# Altium schematic symbol library jlcpcb_2025_04_resistors_extended_1812.schlib: 557 symbols (part 2 of 9)
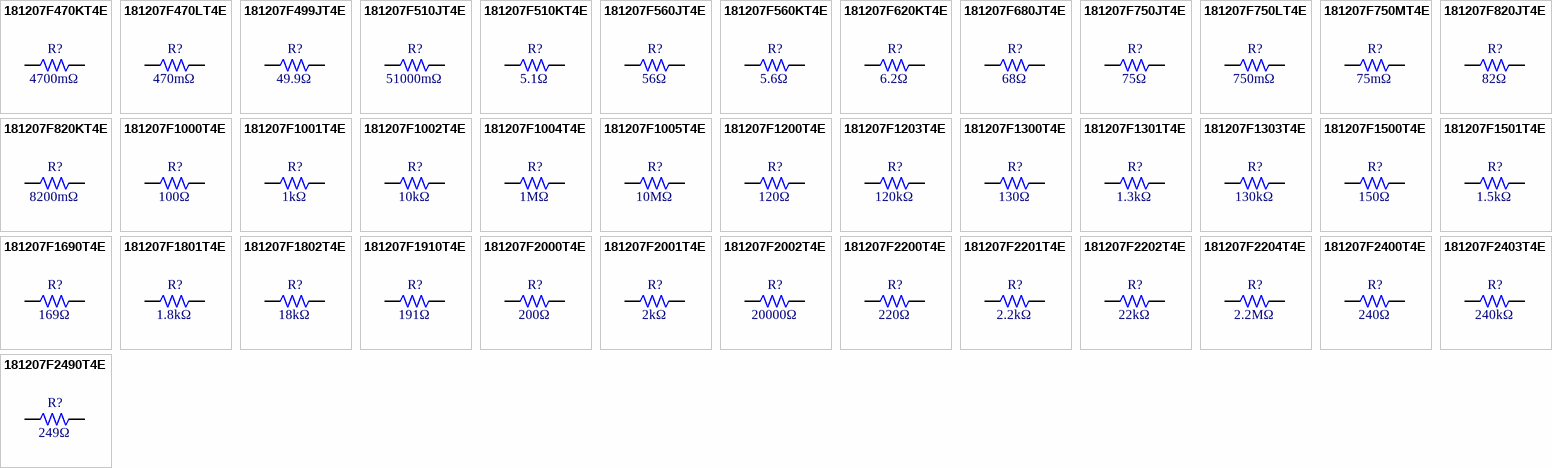
[diagram p14: symbols 181207F470KT4E to 181207F2490T4E]

## 181207F1303T4E
designator R?  Resistance: 130kΩ  (hidden comment: *)
Resistor, 130kΩ, ±1%, 750mW, 200V, ±100ppm/℃, -55℃~+155℃, SMD 1812; Manufacturer: Uniroyal; Manufacturer Part Number: 181207F1303T4E; Supplier 1: LCSC; Supplier Part Number 1: C422150; JLCPCB Part Number: C422150; Power Rating: 750mW; Category: Resistors; Package Size: 1812; JLCPCB Basic Part: Yes; Tolerance: ±1%; Voltage Rating: 200V; Temperature Coefficient: ±100ppm/℃; Temperature Rating: -55℃~+155℃; ComponentLink1Description: Datasheet; ComponentLink1URL: https://wmsc.lcsc.com/wmsc/upload/file/pdf/v2/lcsc/2205312245_UNI-ROYAL-Uniroyal-Elec-181207F1303T4E_C422150.pdf; ComponentLink2Description: JLCPCB Part URL; ComponentLink2URL: https://jlcpcb.com/partdetail/C422150
pins: 1, 2
1 alternate drawing of the same symbol

## 181207F1500T4E
designator R?  Resistance: 150Ω  (hidden comment: *)
Resistor, 150Ω, ±1%, 750mW, 200V, ±100ppm/℃, -55℃~+155℃, SMD 1812; Manufacturer: Uniroyal; Manufacturer Part Number: 181207F1500T4E; Supplier 1: LCSC; Supplier Part Number 1: C422147; JLCPCB Part Number: C422147; Power Rating: 750mW; Category: Resistors; Package Size: 1812; JLCPCB Basic Part: Yes; Tolerance: ±1%; Voltage Rating: 200V; Temperature Coefficient: ±100ppm/℃; Temperature Rating: -55℃~+155℃; ComponentLink1Description: Datasheet; ComponentLink1URL: https://wmsc.lcsc.com/wmsc/upload/file/pdf/v2/lcsc/2205312245_UNI-ROYAL-Uniroyal-Elec-181207F1500T4E_C422147.pdf; ComponentLink2Description: JLCPCB Part URL; ComponentLink2URL: https://jlcpcb.com/partdetail/C422147
pins: 1, 2
1 alternate drawing of the same symbol

## 181207F1501T4E
designator R?  Resistance: 1.5kΩ  (hidden comment: *)
Resistor, 1.5kΩ, ±1%, 750mW, 200V, ±100ppm/℃, -55℃~+155℃, SMD 1812; Manufacturer: Uniroyal; Manufacturer Part Number: 181207F1501T4E; Supplier 1: LCSC; Supplier Part Number 1: C422146; JLCPCB Part Number: C422146; Power Rating: 750mW; Category: Resistors; Package Size: 1812; JLCPCB Basic Part: Yes; Tolerance: ±1%; Voltage Rating: 200V; Temperature Coefficient: ±100ppm/℃; Temperature Rating: -55℃~+155℃; ComponentLink1Description: Datasheet; ComponentLink1URL: https://wmsc.lcsc.com/wmsc/upload/file/pdf/v2/lcsc/2205312245_UNI-ROYAL-Uniroyal-Elec-181207F1501T4E_C422146.pdf; ComponentLink2Description: JLCPCB Part URL; ComponentLink2URL: https://jlcpcb.com/partdetail/C422146
pins: 1, 2
1 alternate drawing of the same symbol

## 181207F1690T4E
designator R?  Resistance: 169Ω  (hidden comment: *)
Resistor, 169Ω, ±1%, 750mW, 200V, ±100ppm/℃, -55℃~+155℃, SMD 1812; Manufacturer: Uniroyal; Manufacturer Part Number: 181207F1690T4E; Supplier 1: LCSC; Supplier Part Number 1: C422142; JLCPCB Part Number: C422142; Power Rating: 750mW; Category: Resistors; Package Size: 1812; JLCPCB Basic Part: Yes; Tolerance: ±1%; Voltage Rating: 200V; Temperature Coefficient: ±100ppm/℃; Temperature Rating: -55℃~+155℃; ComponentLink1Description: Datasheet; ComponentLink1URL: https://wmsc.lcsc.com/wmsc/upload/file/pdf/v2/lcsc/2205312245_UNI-ROYAL-Uniroyal-Elec-181207F1690T4E_C422142.pdf; ComponentLink2Description: JLCPCB Part URL; ComponentLink2URL: https://jlcpcb.com/partdetail/C422142
pins: 1, 2
1 alternate drawing of the same symbol

## 181207F1801T4E
designator R?  Resistance: 1.8kΩ  (hidden comment: *)
Resistor, 1.8kΩ, ±1%, 750mW, 200V, ±100ppm/℃, -55℃~+155℃, SMD 1812; Manufacturer: Uniroyal; Manufacturer Part Number: 181207F1801T4E; Supplier 1: LCSC; Supplier Part Number 1: C422141; JLCPCB Part Number: C422141; Power Rating: 750mW; Category: Resistors; Package Size: 1812; JLCPCB Basic Part: Yes; Tolerance: ±1%; Voltage Rating: 200V; Temperature Coefficient: ±100ppm/℃; Temperature Rating: -55℃~+155℃; ComponentLink1Description: Datasheet; ComponentLink1URL: https://wmsc.lcsc.com/wmsc/upload/file/pdf/v2/lcsc/2205312245_UNI-ROYAL-Uniroyal-Elec-181207F1801T4E_C422141.pdf; ComponentLink2Description: JLCPCB Part URL; ComponentLink2URL: https://jlcpcb.com/partdetail/C422141
pins: 1, 2
1 alternate drawing of the same symbol

## 181207F1802T4E
designator R?  Resistance: 18kΩ  (hidden comment: *)
Resistor, 18kΩ, ±1%, 750mW, 200V, ±100ppm/℃, -55℃~+155℃, SMD 1812; Manufacturer: Uniroyal; Manufacturer Part Number: 181207F1802T4E; Supplier 1: LCSC; Supplier Part Number 1: C422140; JLCPCB Part Number: C422140; Power Rating: 750mW; Category: Resistors; Package Size: 1812; JLCPCB Basic Part: Yes; Tolerance: ±1%; Voltage Rating: 200V; Temperature Coefficient: ±100ppm/℃; Temperature Rating: -55℃~+155℃; ComponentLink1Description: Datasheet; ComponentLink1URL: https://wmsc.lcsc.com/wmsc/upload/file/pdf/v2/lcsc/2205312245_UNI-ROYAL-Uniroyal-Elec-181207F1802T4E_C422140.pdf; ComponentLink2Description: JLCPCB Part URL; ComponentLink2URL: https://jlcpcb.com/partdetail/C422140
pins: 1, 2
1 alternate drawing of the same symbol

## 181207F1910T4E
designator R?  Resistance: 191Ω  (hidden comment: *)
Resistor, 191Ω, ±1%, 750mW, 200V, ±100ppm/℃, -55℃~+155℃, SMD 1812; Manufacturer: Uniroyal; Manufacturer Part Number: 181207F1910T4E; Supplier 1: LCSC; Supplier Part Number 1: C422136; JLCPCB Part Number: C422136; Power Rating: 750mW; Category: Resistors; Package Size: 1812; JLCPCB Basic Part: Yes; Tolerance: ±1%; Voltage Rating: 200V; Temperature Coefficient: ±100ppm/℃; Temperature Rating: -55℃~+155℃; ComponentLink1Description: Datasheet; ComponentLink1URL: https://wmsc.lcsc.com/wmsc/upload/file/pdf/v2/lcsc/2205312245_UNI-ROYAL-Uniroyal-Elec-181207F1910T4E_C422136.pdf; ComponentLink2Description: JLCPCB Part URL; ComponentLink2URL: https://jlcpcb.com/partdetail/C422136
pins: 1, 2
1 alternate drawing of the same symbol

## 181207F2000T4E
designator R?  Resistance: 200Ω  (hidden comment: *)
Resistor, 200Ω, ±1%, 750mW, 200V, ±100ppm/℃, -55℃~+155℃, SMD 1812; Manufacturer: Uniroyal; Manufacturer Part Number: 181207F2000T4E; Supplier 1: LCSC; Supplier Part Number 1: C422135; JLCPCB Part Number: C422135; Power Rating: 750mW; Category: Resistors; Package Size: 1812; JLCPCB Basic Part: Yes; Tolerance: ±1%; Voltage Rating: 200V; Temperature Coefficient: ±100ppm/℃; Temperature Rating: -55℃~+155℃; ComponentLink1Description: Datasheet; ComponentLink1URL: https://wmsc.lcsc.com/wmsc/upload/file/pdf/v2/lcsc/2304140030_UNI-ROYAL-Uniroyal-Elec-181207F2000T4E_C422135.pdf; ComponentLink2Description: JLCPCB Part URL; ComponentLink2URL: https://jlcpcb.com/partdetail/C422135
pins: 1, 2
1 alternate drawing of the same symbol

## 181207F2001T4E
designator R?  Resistance: 2kΩ  (hidden comment: *)
Resistor, 2kΩ, ±1%, 750mW, 200V, ±100ppm/℃, -55℃~+155℃, SMD 1812; Manufacturer: Uniroyal; Manufacturer Part Number: 181207F2001T4E; Supplier 1: LCSC; Supplier Part Number 1: C2908109; JLCPCB Part Number: C2908109; Power Rating: 750mW; Category: Resistors; Package Size: 1812; JLCPCB Basic Part: Yes; Tolerance: ±1%; Voltage Rating: 200V; Temperature Coefficient: ±100ppm/℃; Temperature Rating: -55℃~+155℃; ComponentLink1Description: Datasheet; ComponentLink1URL: https://wmsc.lcsc.com/wmsc/upload/file/pdf/v2/lcsc/2206011045_UNI-ROYAL-Uniroyal-Elec-181207F2001T4E_C2908109.pdf; ComponentLink2Description: JLCPCB Part URL; ComponentLink2URL: https://jlcpcb.com/partdetail/C2908109
pins: 1, 2
1 alternate drawing of the same symbol

## 181207F2002T4E
designator R?  Resistance: 20000Ω  (hidden comment: *)
Resistor, 20000Ω, ±1%, 750mW, 200V, ±100ppm/℃, -55℃~+155℃, SMD 1812; Manufacturer: Uniroyal; Manufacturer Part Number: 181207F2002T4E; Supplier 1: LCSC; Supplier Part Number 1: C921029; JLCPCB Part Number: C921029; Power Rating: 750mW; Category: Resistors; Package Size: 1812; JLCPCB Basic Part: Yes; Tolerance: ±1%; Voltage Rating: 200V; Temperature Coefficient: ±100ppm/℃; Temperature Rating: -55℃~+155℃; ComponentLink1Description: Datasheet; ComponentLink1URL: https://wmsc.lcsc.com/wmsc/upload/file/pdf/v2/lcsc/2206011045_UNI-ROYAL-Uniroyal-Elec-181207F2002T4E_C921029.pdf; ComponentLink2Description: JLCPCB Part URL; ComponentLink2URL: https://jlcpcb.com/partdetail/C921029
pins: 1, 2
1 alternate drawing of the same symbol

## 181207F2200T4E
designator R?  Resistance: 220Ω  (hidden comment: *)
Resistor, 220Ω, ±1%, 750mW, 200V, ±100ppm/℃, -55℃~+155℃, SMD 1812; Manufacturer: Uniroyal; Manufacturer Part Number: 181207F2200T4E; Supplier 1: LCSC; Supplier Part Number 1: C422132; JLCPCB Part Number: C422132; Power Rating: 750mW; Category: Resistors; Package Size: 1812; JLCPCB Basic Part: Yes; Tolerance: ±1%; Voltage Rating: 200V; Temperature Coefficient: ±100ppm/℃; Temperature Rating: -55℃~+155℃; ComponentLink1Description: Datasheet; ComponentLink1URL: https://wmsc.lcsc.com/wmsc/upload/file/pdf/v2/lcsc/2205312245_UNI-ROYAL-Uniroyal-Elec-181207F2200T4E_C422132.pdf; ComponentLink2Description: JLCPCB Part URL; ComponentLink2URL: https://jlcpcb.com/partdetail/C422132
pins: 1, 2
1 alternate drawing of the same symbol

## 181207F2201T4E
designator R?  Resistance: 2.2kΩ  (hidden comment: *)
Resistor, 2.2kΩ, ±1%, 750mW, 200V, -55℃~+155℃, SMD 1812; Manufacturer: Uniroyal; Manufacturer Part Number: 181207F2201T4E; Supplier 1: LCSC; Supplier Part Number 1: C407130; JLCPCB Part Number: C407130; Power Rating: 750mW; Category: Resistors; Package Size: 1812; JLCPCB Basic Part: Yes; Tolerance: ±1%; Voltage Rating: 200V; Temperature Rating: -55℃~+155℃; ComponentLink1Description: Datasheet; ComponentLink2Description: JLCPCB Part URL; ComponentLink2URL: https://jlcpcb.com/partdetail/C407130
pins: 1, 2
1 alternate drawing of the same symbol

## 181207F2202T4E
designator R?  Resistance: 22kΩ  (hidden comment: *)
Resistor, 22kΩ, ±1%, 750mW, 200V, ±100ppm/℃, -55℃~+155℃, SMD 1812; Manufacturer: Uniroyal; Manufacturer Part Number: 181207F2202T4E; Supplier 1: LCSC; Supplier Part Number 1: C422131; JLCPCB Part Number: C422131; Power Rating: 750mW; Category: Resistors; Package Size: 1812; JLCPCB Basic Part: Yes; Tolerance: ±1%; Voltage Rating: 200V; Temperature Coefficient: ±100ppm/℃; Temperature Rating: -55℃~+155℃; ComponentLink1Description: Datasheet; ComponentLink1URL: https://wmsc.lcsc.com/wmsc/upload/file/pdf/v2/lcsc/2205312245_UNI-ROYAL-Uniroyal-Elec-181207F2202T4E_C422131.pdf; ComponentLink2Description: JLCPCB Part URL; ComponentLink2URL: https://jlcpcb.com/partdetail/C422131
pins: 1, 2
1 alternate drawing of the same symbol

## 181207F2204T4E
designator R?  Resistance: 2.2MΩ  (hidden comment: *)
Resistor, 2.2MΩ, ±1%, 750mW, 200V, ±100ppm/℃, -55℃~+155℃, SMD 1812; Manufacturer: Uniroyal; Manufacturer Part Number: 181207F2204T4E; Supplier 1: LCSC; Supplier Part Number 1: C422129; JLCPCB Part Number: C422129; Power Rating: 750mW; Category: Resistors; Package Size: 1812; JLCPCB Basic Part: Yes; Tolerance: ±1%; Voltage Rating: 200V; Temperature Coefficient: ±100ppm/℃; Temperature Rating: -55℃~+155℃; ComponentLink1Description: Datasheet; ComponentLink1URL: https://wmsc.lcsc.com/wmsc/upload/file/pdf/v2/lcsc/2205312016_UNI-ROYAL-Uniroyal-Elec-181207F2204T4E_C422129.pdf; ComponentLink2Description: JLCPCB Part URL; ComponentLink2URL: https://jlcpcb.com/partdetail/C422129
pins: 1, 2
1 alternate drawing of the same symbol

## 181207F2400T4E
designator R?  Resistance: 240Ω  (hidden comment: *)
Resistor, 240Ω, ±1%, 750mW, 200V, ±100ppm/℃, -55℃~+155℃, SMD 1812; Manufacturer: Uniroyal; Manufacturer Part Number: 181207F2400T4E; Supplier 1: LCSC; Supplier Part Number 1: C422124; JLCPCB Part Number: C422124; Power Rating: 750mW; Category: Resistors; Package Size: 1812; JLCPCB Basic Part: Yes; Tolerance: ±1%; Voltage Rating: 200V; Temperature Coefficient: ±100ppm/℃; Temperature Rating: -55℃~+155℃; ComponentLink1Description: Datasheet; ComponentLink1URL: https://wmsc.lcsc.com/wmsc/upload/file/pdf/v2/lcsc/2205312016_UNI-ROYAL-Uniroyal-Elec-181207F2400T4E_C422124.pdf; ComponentLink2Description: JLCPCB Part URL; ComponentLink2URL: https://jlcpcb.com/partdetail/C422124
pins: 1, 2
1 alternate drawing of the same symbol

## 181207F2403T4E
designator R?  Resistance: 240kΩ  (hidden comment: *)
Resistor, 240kΩ, ±1%, 750mW, 200V, ±100ppm/℃, -55℃~+155℃, SMD 1812; Manufacturer: Uniroyal; Manufacturer Part Number: 181207F2403T4E; Supplier 1: LCSC; Supplier Part Number 1: C422123; JLCPCB Part Number: C422123; Power Rating: 750mW; Category: Resistors; Package Size: 1812; JLCPCB Basic Part: Yes; Tolerance: ±1%; Voltage Rating: 200V; Temperature Coefficient: ±100ppm/℃; Temperature Rating: -55℃~+155℃; ComponentLink1Description: Datasheet; ComponentLink1URL: https://wmsc.lcsc.com/wmsc/upload/file/pdf/v2/lcsc/2205312016_UNI-ROYAL-Uniroyal-Elec-181207F2403T4E_C422123.pdf; ComponentLink2Description: JLCPCB Part URL; ComponentLink2URL: https://jlcpcb.com/partdetail/C422123
pins: 1, 2
1 alternate drawing of the same symbol

## 181207F2490T4E
designator R?  Resistance: 249Ω  (hidden comment: *)
Resistor, 249Ω, ±1%, 750mW, 200V, ±100ppm/℃, -55℃~+155℃, SMD 1812; Manufacturer: Uniroyal; Manufacturer Part Number: 181207F2490T4E; Supplier 1: LCSC; Supplier Part Number 1: C2768411; JLCPCB Part Number: C2768411; Power Rating: 750mW; Category: Resistors; Package Size: 1812; JLCPCB Basic Part: Yes; Tolerance: ±1%; Voltage Rating: 200V; Temperature Coefficient: ±100ppm/℃; Temperature Rating: -55℃~+155℃; ComponentLink1Description: Datasheet; ComponentLink1URL: https://wmsc.lcsc.com/wmsc/upload/file/pdf/v2/lcsc/2206011000_UNI-ROYAL-Uniroyal-Elec-181207F2490T4E_C2768411.pdf; ComponentLink2Description: JLCPCB Part URL; ComponentLink2URL: https://jlcpcb.com/partdetail/C2768411
pins: 1, 2
1 alternate drawing of the same symbol

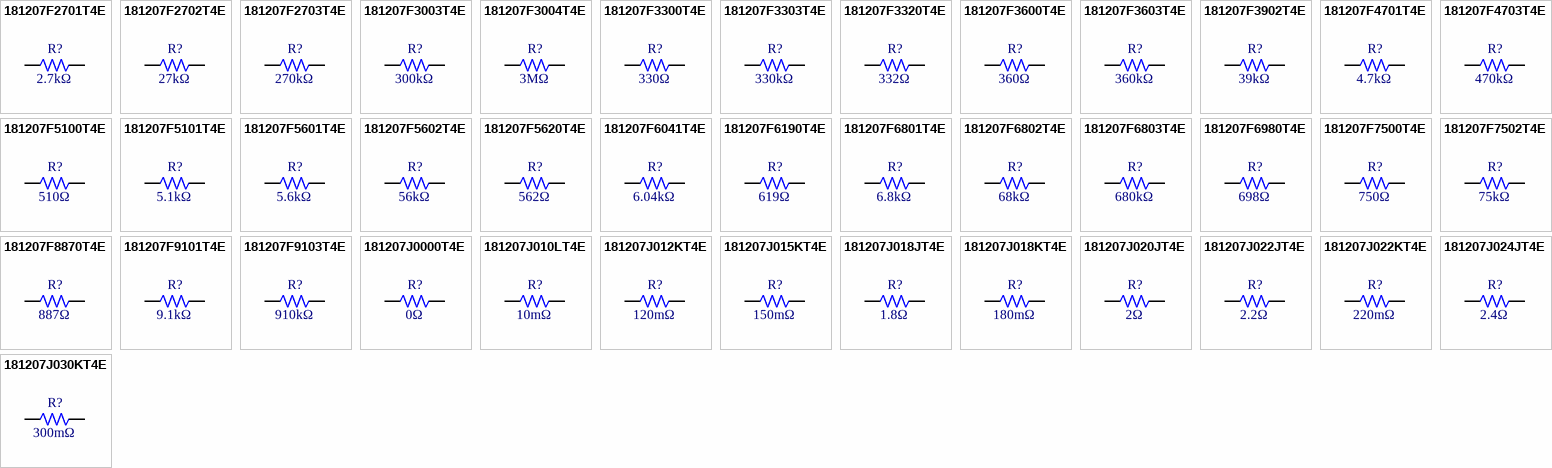
[diagram p2: symbols 181207F2701T4E to 181207J030KT4E]

## 181207F2701T4E
designator R?  Resistance: 2.7kΩ  (hidden comment: *)
Resistor, 2.7kΩ, ±1%, 750mW, 200V, ±100ppm/℃, -55℃~+155℃, SMD 1812; Manufacturer: Uniroyal; Manufacturer Part Number: 181207F2701T4E; Supplier 1: LCSC; Supplier Part Number 1: C422118; JLCPCB Part Number: C422118; Power Rating: 750mW; Category: Resistors; Package Size: 1812; JLCPCB Basic Part: Yes; Tolerance: ±1%; Voltage Rating: 200V; Temperature Coefficient: ±100ppm/℃; Temperature Rating: -55℃~+155℃; ComponentLink1Description: Datasheet; ComponentLink1URL: https://wmsc.lcsc.com/wmsc/upload/file/pdf/v2/lcsc/2205312016_UNI-ROYAL-Uniroyal-Elec-181207F2701T4E_C422118.pdf; ComponentLink2Description: JLCPCB Part URL; ComponentLink2URL: https://jlcpcb.com/partdetail/C422118
pins: 1, 2
1 alternate drawing of the same symbol

## 181207F2702T4E
designator R?  Resistance: 27kΩ  (hidden comment: *)
Resistor, 27kΩ, ±1%, 750mW, 200V, ±100ppm/℃, -55℃~+155℃, SMD 1812; Manufacturer: Uniroyal; Manufacturer Part Number: 181207F2702T4E; Supplier 1: LCSC; Supplier Part Number 1: C422117; JLCPCB Part Number: C422117; Power Rating: 750mW; Category: Resistors; Package Size: 1812; JLCPCB Basic Part: Yes; Tolerance: ±1%; Voltage Rating: 200V; Temperature Coefficient: ±100ppm/℃; Temperature Rating: -55℃~+155℃; ComponentLink1Description: Datasheet; ComponentLink1URL: https://wmsc.lcsc.com/wmsc/upload/file/pdf/v2/lcsc/2205312016_UNI-ROYAL-Uniroyal-Elec-181207F2702T4E_C422117.pdf; ComponentLink2Description: JLCPCB Part URL; ComponentLink2URL: https://jlcpcb.com/partdetail/C422117
pins: 1, 2
1 alternate drawing of the same symbol

## 181207F2703T4E
designator R?  Resistance: 270kΩ  (hidden comment: *)
Resistor, 270kΩ, ±1%, 750mW, 200V, ±100ppm/℃, -55℃~+155℃, SMD 1812; Manufacturer: Uniroyal; Manufacturer Part Number: 181207F2703T4E; Supplier 1: LCSC; Supplier Part Number 1: C422116; JLCPCB Part Number: C422116; Power Rating: 750mW; Category: Resistors; Package Size: 1812; JLCPCB Basic Part: Yes; Tolerance: ±1%; Voltage Rating: 200V; Temperature Coefficient: ±100ppm/℃; Temperature Rating: -55℃~+155℃; ComponentLink1Description: Datasheet; ComponentLink1URL: https://wmsc.lcsc.com/wmsc/upload/file/pdf/v2/lcsc/2205312016_UNI-ROYAL-Uniroyal-Elec-181207F2703T4E_C422116.pdf; ComponentLink2Description: JLCPCB Part URL; ComponentLink2URL: https://jlcpcb.com/partdetail/C422116
pins: 1, 2
1 alternate drawing of the same symbol

## 181207F3003T4E
designator R?  Resistance: 300kΩ  (hidden comment: *)
Resistor, 300kΩ, ±1%, 750mW, 200V, ±100ppm/℃, -55℃~+155℃, SMD 1812; Manufacturer: Uniroyal; Manufacturer Part Number: 181207F3003T4E; Supplier 1: LCSC; Supplier Part Number 1: C422112; JLCPCB Part Number: C422112; Power Rating: 750mW; Category: Resistors; Package Size: 1812; JLCPCB Basic Part: Yes; Tolerance: ±1%; Voltage Rating: 200V; Temperature Coefficient: ±100ppm/℃; Temperature Rating: -55℃~+155℃; ComponentLink1Description: Datasheet; ComponentLink1URL: https://wmsc.lcsc.com/wmsc/upload/file/pdf/v2/lcsc/2205312016_UNI-ROYAL-Uniroyal-Elec-181207F3003T4E_C422112.pdf; ComponentLink2Description: JLCPCB Part URL; ComponentLink2URL: https://jlcpcb.com/partdetail/C422112
pins: 1, 2
1 alternate drawing of the same symbol

## 181207F3004T4E
designator R?  Resistance: 3MΩ  (hidden comment: *)
Resistor, 3MΩ, ±1%, 750mW, 200V, ±100ppm/℃, -55℃~+155℃, SMD 1812; Manufacturer: Uniroyal; Manufacturer Part Number: 181207F3004T4E; Supplier 1: LCSC; Supplier Part Number 1: C422111; JLCPCB Part Number: C422111; Power Rating: 750mW; Category: Resistors; Package Size: 1812; JLCPCB Basic Part: Yes; Tolerance: ±1%; Voltage Rating: 200V; Temperature Coefficient: ±100ppm/℃; Temperature Rating: -55℃~+155℃; ComponentLink1Description: Datasheet; ComponentLink1URL: https://wmsc.lcsc.com/wmsc/upload/file/pdf/v2/lcsc/2205312016_UNI-ROYAL-Uniroyal-Elec-181207F3004T4E_C422111.pdf; ComponentLink2Description: JLCPCB Part URL; ComponentLink2URL: https://jlcpcb.com/partdetail/C422111
pins: 1, 2
1 alternate drawing of the same symbol

## 181207F3300T4E
designator R?  Resistance: 330Ω  (hidden comment: *)
Resistor, 330Ω, ±1%, 750mW, 200V, ±100ppm/℃, -55℃~+155℃, SMD 1812; Manufacturer: Uniroyal; Manufacturer Part Number: 181207F3300T4E; Supplier 1: LCSC; Supplier Part Number 1: C2765505; JLCPCB Part Number: C2765505; Power Rating: 750mW; Category: Resistors; Package Size: 1812; JLCPCB Basic Part: Yes; Tolerance: ±1%; Voltage Rating: 200V; Temperature Coefficient: ±100ppm/℃; Temperature Rating: -55℃~+155℃; ComponentLink1Description: Datasheet; ComponentLink1URL: https://wmsc.lcsc.com/wmsc/upload/file/pdf/v2/lcsc/2206011045_UNI-ROYAL-Uniroyal-Elec-181207F3300T4E_C2765505.pdf; ComponentLink2Description: JLCPCB Part URL; ComponentLink2URL: https://jlcpcb.com/partdetail/C2765505
pins: 1, 2
1 alternate drawing of the same symbol

## 181207F3303T4E
designator R?  Resistance: 330kΩ  (hidden comment: *)
Resistor, 330kΩ, ±1%, 750mW, 200V, ±100ppm/℃, -55℃~+155℃, SMD 1812; Manufacturer: Uniroyal; Manufacturer Part Number: 181207F3303T4E; Supplier 1: LCSC; Supplier Part Number 1: C422107; JLCPCB Part Number: C422107; Power Rating: 750mW; Category: Resistors; Package Size: 1812; JLCPCB Basic Part: Yes; Tolerance: ±1%; Voltage Rating: 200V; Temperature Coefficient: ±100ppm/℃; Temperature Rating: -55℃~+155℃; ComponentLink1Description: Datasheet; ComponentLink1URL: https://wmsc.lcsc.com/wmsc/upload/file/pdf/v2/lcsc/2205312016_UNI-ROYAL-Uniroyal-Elec-181207F3303T4E_C422107.pdf; ComponentLink2Description: JLCPCB Part URL; ComponentLink2URL: https://jlcpcb.com/partdetail/C422107
pins: 1, 2
1 alternate drawing of the same symbol

## 181207F3320T4E
designator R?  Resistance: 332Ω  (hidden comment: *)
Resistor, 332Ω, ±1%, 750mW, 200V, ±100ppm/℃, -55℃~+155℃, SMD 1812; Manufacturer: Uniroyal; Manufacturer Part Number: 181207F3320T4E; Supplier 1: LCSC; Supplier Part Number 1: C422104; JLCPCB Part Number: C422104; Power Rating: 750mW; Category: Resistors; Package Size: 1812; JLCPCB Basic Part: Yes; Tolerance: ±1%; Voltage Rating: 200V; Temperature Coefficient: ±100ppm/℃; Temperature Rating: -55℃~+155℃; ComponentLink1Description: Datasheet; ComponentLink1URL: https://wmsc.lcsc.com/wmsc/upload/file/pdf/v2/lcsc/2205312016_UNI-ROYAL-Uniroyal-Elec-181207F3320T4E_C422104.pdf; ComponentLink2Description: JLCPCB Part URL; ComponentLink2URL: https://jlcpcb.com/partdetail/C422104
pins: 1, 2
1 alternate drawing of the same symbol

## 181207F3600T4E
designator R?  Resistance: 360Ω  (hidden comment: *)
Resistor, 360Ω, ±1%, 750mW, 200V, ±100ppm/℃, -55℃~+155℃, SMD 1812; Manufacturer: Uniroyal; Manufacturer Part Number: 181207F3600T4E; Supplier 1: LCSC; Supplier Part Number 1: C422101; JLCPCB Part Number: C422101; Power Rating: 750mW; Category: Resistors; Package Size: 1812; JLCPCB Basic Part: Yes; Tolerance: ±1%; Voltage Rating: 200V; Temperature Coefficient: ±100ppm/℃; Temperature Rating: -55℃~+155℃; ComponentLink1Description: Datasheet; ComponentLink1URL: https://wmsc.lcsc.com/wmsc/upload/file/pdf/v2/lcsc/2205312016_UNI-ROYAL-Uniroyal-Elec-181207F3600T4E_C422101.pdf; ComponentLink2Description: JLCPCB Part URL; ComponentLink2URL: https://jlcpcb.com/partdetail/C422101
pins: 1, 2
1 alternate drawing of the same symbol

## 181207F3603T4E
designator R?  Resistance: 360kΩ  (hidden comment: *)
Resistor, 360kΩ, ±1%, 750mW, 200V, ±100ppm/℃, -55℃~+155℃, SMD 1812; Manufacturer: Uniroyal; Manufacturer Part Number: 181207F3603T4E; Supplier 1: LCSC; Supplier Part Number 1: C422099; JLCPCB Part Number: C422099; Power Rating: 750mW; Category: Resistors; Package Size: 1812; JLCPCB Basic Part: Yes; Tolerance: ±1%; Voltage Rating: 200V; Temperature Coefficient: ±100ppm/℃; Temperature Rating: -55℃~+155℃; ComponentLink1Description: Datasheet; ComponentLink1URL: https://wmsc.lcsc.com/wmsc/upload/file/pdf/v2/lcsc/2205312016_UNI-ROYAL-Uniroyal-Elec-181207F3603T4E_C422099.pdf; ComponentLink2Description: JLCPCB Part URL; ComponentLink2URL: https://jlcpcb.com/partdetail/C422099
pins: 1, 2
1 alternate drawing of the same symbol

## 181207F3902T4E
designator R?  Resistance: 39kΩ  (hidden comment: *)
Resistor, 39kΩ, ±1%, 750mW, 200V, ±100ppm/℃, -55℃~+155℃, SMD 1812; Manufacturer: Uniroyal; Manufacturer Part Number: 181207F3902T4E; Supplier 1: LCSC; Supplier Part Number 1: C422095; JLCPCB Part Number: C422095; Power Rating: 750mW; Category: Resistors; Package Size: 1812; JLCPCB Basic Part: Yes; Tolerance: ±1%; Voltage Rating: 200V; Temperature Coefficient: ±100ppm/℃; Temperature Rating: -55℃~+155℃; ComponentLink1Description: Datasheet; ComponentLink1URL: https://wmsc.lcsc.com/wmsc/upload/file/pdf/v2/lcsc/2205312016_UNI-ROYAL-Uniroyal-Elec-181207F3902T4E_C422095.pdf; ComponentLink2Description: JLCPCB Part URL; ComponentLink2URL: https://jlcpcb.com/partdetail/C422095
pins: 1, 2
1 alternate drawing of the same symbol

## 181207F4701T4E
designator R?  Resistance: 4.7kΩ  (hidden comment: *)
Resistor, 4.7kΩ, ±1%, 750mW, 200V, ±100ppm/℃, -55℃~+155℃, SMD 1812; Manufacturer: Uniroyal; Manufacturer Part Number: 181207F4701T4E; Supplier 1: LCSC; Supplier Part Number 1: C422086; JLCPCB Part Number: C422086; Power Rating: 750mW; Category: Resistors; Package Size: 1812; JLCPCB Basic Part: Yes; Tolerance: ±1%; Voltage Rating: 200V; Temperature Coefficient: ±100ppm/℃; Temperature Rating: -55℃~+155℃; ComponentLink1Description: Datasheet; ComponentLink1URL: https://wmsc.lcsc.com/wmsc/upload/file/pdf/v2/lcsc/2205312016_UNI-ROYAL-Uniroyal-Elec-181207F4701T4E_C422086.pdf; ComponentLink2Description: JLCPCB Part URL; ComponentLink2URL: https://jlcpcb.com/partdetail/C422086
pins: 1, 2
1 alternate drawing of the same symbol

## 181207F4703T4E
designator R?  Resistance: 470kΩ  (hidden comment: *)
Resistor, 470kΩ, ±1%, 750mW, 200V, ±100ppm/℃, -55℃~+155℃, SMD 1812; Manufacturer: Uniroyal; Manufacturer Part Number: 181207F4703T4E; Supplier 1: LCSC; Supplier Part Number 1: C422085; JLCPCB Part Number: C422085; Power Rating: 750mW; Category: Resistors; Package Size: 1812; JLCPCB Basic Part: Yes; Tolerance: ±1%; Voltage Rating: 200V; Temperature Coefficient: ±100ppm/℃; Temperature Rating: -55℃~+155℃; ComponentLink1Description: Datasheet; ComponentLink1URL: https://wmsc.lcsc.com/wmsc/upload/file/pdf/v2/lcsc/2205312016_UNI-ROYAL-Uniroyal-Elec-181207F4703T4E_C422085.pdf; ComponentLink2Description: JLCPCB Part URL; ComponentLink2URL: https://jlcpcb.com/partdetail/C422085
pins: 1, 2
1 alternate drawing of the same symbol

## 181207F5100T4E
designator R?  Resistance: 510Ω  (hidden comment: *)
Resistor, 510Ω, ±1%, 750mW, 200V, ±100ppm/℃, -55℃~+155℃, SMD 1812; Manufacturer: Uniroyal; Manufacturer Part Number: 181207F5100T4E; Supplier 1: LCSC; Supplier Part Number 1: C124344; JLCPCB Part Number: C124344; Power Rating: 750mW; Category: Resistors; Package Size: 1812; JLCPCB Basic Part: Yes; Tolerance: ±1%; Voltage Rating: 200V; Temperature Coefficient: ±100ppm/℃; Temperature Rating: -55℃~+155℃; ComponentLink1Description: Datasheet; ComponentLink1URL: https://wmsc.lcsc.com/wmsc/upload/file/pdf/v2/lcsc/2205312316_UNI-ROYAL-Uniroyal-Elec-181207F5100T4E_C124344.pdf; ComponentLink2Description: JLCPCB Part URL; ComponentLink2URL: https://jlcpcb.com/partdetail/C124344
pins: 1, 2
1 alternate drawing of the same symbol

## 181207F5101T4E
designator R?  Resistance: 5.1kΩ  (hidden comment: *)
Resistor, 5.1kΩ, ±1%, 750mW, 200V, ±100ppm/℃, -55℃~+155℃, SMD 1812; Manufacturer: Uniroyal; Manufacturer Part Number: 181207F5101T4E; Supplier 1: LCSC; Supplier Part Number 1: C474261; JLCPCB Part Number: C474261; Power Rating: 750mW; Category: Resistors; Package Size: 1812; JLCPCB Basic Part: Yes; Tolerance: ±1%; Voltage Rating: 200V; Temperature Coefficient: ±100ppm/℃; Temperature Rating: -55℃~+155℃; ComponentLink1Description: Datasheet; ComponentLink1URL: https://wmsc.lcsc.com/wmsc/upload/file/pdf/v2/lcsc/2206011100_UNI-ROYAL-Uniroyal-Elec-181207F5101T4E_C474261.pdf; ComponentLink2Description: JLCPCB Part URL; ComponentLink2URL: https://jlcpcb.com/partdetail/C474261
pins: 1, 2
1 alternate drawing of the same symbol

## 181207F5601T4E
designator R?  Resistance: 5.6kΩ  (hidden comment: *)
Resistor, 5.6kΩ, ±1%, 750mW, 200V, ±100ppm/℃, -55℃~+155℃, SMD 1812; Manufacturer: Uniroyal; Manufacturer Part Number: 181207F5601T4E; Supplier 1: LCSC; Supplier Part Number 1: C422075; JLCPCB Part Number: C422075; Power Rating: 750mW; Category: Resistors; Package Size: 1812; JLCPCB Basic Part: Yes; Tolerance: ±1%; Voltage Rating: 200V; Temperature Coefficient: ±100ppm/℃; Temperature Rating: -55℃~+155℃; ComponentLink1Description: Datasheet; ComponentLink1URL: https://wmsc.lcsc.com/wmsc/upload/file/pdf/v2/lcsc/2205312016_UNI-ROYAL-Uniroyal-Elec-181207F5601T4E_C422075.pdf; ComponentLink2Description: JLCPCB Part URL; ComponentLink2URL: https://jlcpcb.com/partdetail/C422075
pins: 1, 2
1 alternate drawing of the same symbol

## 181207F5602T4E
designator R?  Resistance: 56kΩ  (hidden comment: *)
Resistor, 56kΩ, ±1%, 750mW, 200V, ±100ppm/℃, -55℃~+155℃, SMD 1812; Manufacturer: Uniroyal; Manufacturer Part Number: 181207F5602T4E; Supplier 1: LCSC; Supplier Part Number 1: C422074; JLCPCB Part Number: C422074; Power Rating: 750mW; Category: Resistors; Package Size: 1812; JLCPCB Basic Part: Yes; Tolerance: ±1%; Voltage Rating: 200V; Temperature Coefficient: ±100ppm/℃; Temperature Rating: -55℃~+155℃; ComponentLink1Description: Datasheet; ComponentLink1URL: https://wmsc.lcsc.com/wmsc/upload/file/pdf/v2/lcsc/2205312016_UNI-ROYAL-Uniroyal-Elec-181207F5602T4E_C422074.pdf; ComponentLink2Description: JLCPCB Part URL; ComponentLink2URL: https://jlcpcb.com/partdetail/C422074
pins: 1, 2
1 alternate drawing of the same symbol

## 181207F5620T4E
designator R?  Resistance: 562Ω  (hidden comment: *)
Resistor, 562Ω, ±1%, 750mW, 200V, ±100ppm/℃, -55℃~+155℃, SMD 1812; Manufacturer: Uniroyal; Manufacturer Part Number: 181207F5620T4E; Supplier 1: LCSC; Supplier Part Number 1: C422071; JLCPCB Part Number: C422071; Power Rating: 750mW; Category: Resistors; Package Size: 1812; JLCPCB Basic Part: Yes; Tolerance: ±1%; Voltage Rating: 200V; Temperature Coefficient: ±100ppm/℃; Temperature Rating: -55℃~+155℃; ComponentLink1Description: Datasheet; ComponentLink1URL: https://wmsc.lcsc.com/wmsc/upload/file/pdf/v2/lcsc/2205312016_UNI-ROYAL-Uniroyal-Elec-181207F5620T4E_C422071.pdf; ComponentLink2Description: JLCPCB Part URL; ComponentLink2URL: https://jlcpcb.com/partdetail/C422071
pins: 1, 2
1 alternate drawing of the same symbol

## 181207F6041T4E
designator R?  Resistance: 6.04kΩ  (hidden comment: *)
Resistor, 6.04kΩ, ±1%, 750mW, 200V, ±100ppm/℃, -55℃~+155℃, SMD 1812; Manufacturer: Uniroyal; Manufacturer Part Number: 181207F6041T4E; Supplier 1: LCSC; Supplier Part Number 1: C422069; JLCPCB Part Number: C422069; Power Rating: 750mW; Category: Resistors; Package Size: 1812; JLCPCB Basic Part: Yes; Tolerance: ±1%; Voltage Rating: 200V; Temperature Coefficient: ±100ppm/℃; Temperature Rating: -55℃~+155℃; ComponentLink1Description: Datasheet; ComponentLink1URL: https://wmsc.lcsc.com/wmsc/upload/file/pdf/v2/lcsc/2205312016_UNI-ROYAL-Uniroyal-Elec-181207F6041T4E_C422069.pdf; ComponentLink2Description: JLCPCB Part URL; ComponentLink2URL: https://jlcpcb.com/partdetail/C422069
pins: 1, 2
1 alternate drawing of the same symbol

## 181207F6190T4E
designator R?  Resistance: 619Ω  (hidden comment: *)
Resistor, 619Ω, ±1%, 750mW, 200V, ±100ppm/℃, -55℃~+155℃, SMD 1812; Manufacturer: Uniroyal; Manufacturer Part Number: 181207F6190T4E; Supplier 1: LCSC; Supplier Part Number 1: C422067; JLCPCB Part Number: C422067; Power Rating: 750mW; Category: Resistors; Package Size: 1812; JLCPCB Basic Part: Yes; Tolerance: ±1%; Voltage Rating: 200V; Temperature Coefficient: ±100ppm/℃; Temperature Rating: -55℃~+155℃; ComponentLink1Description: Datasheet; ComponentLink1URL: https://wmsc.lcsc.com/wmsc/upload/file/pdf/v2/lcsc/2205312016_UNI-ROYAL-Uniroyal-Elec-181207F6190T4E_C422067.pdf; ComponentLink2Description: JLCPCB Part URL; ComponentLink2URL: https://jlcpcb.com/partdetail/C422067
pins: 1, 2
1 alternate drawing of the same symbol

## 181207F6801T4E
designator R?  Resistance: 6.8kΩ  (hidden comment: *)
Resistor, 6.8kΩ, ±1%, 750mW, 200V, ±100ppm/℃, -55℃~+155℃, SMD 1812; Manufacturer: Uniroyal; Manufacturer Part Number: 181207F6801T4E; Supplier 1: LCSC; Supplier Part Number 1: C422063; JLCPCB Part Number: C422063; Power Rating: 750mW; Category: Resistors; Package Size: 1812; JLCPCB Basic Part: Yes; Tolerance: ±1%; Voltage Rating: 200V; Temperature Coefficient: ±100ppm/℃; Temperature Rating: -55℃~+155℃; ComponentLink1Description: Datasheet; ComponentLink1URL: https://wmsc.lcsc.com/wmsc/upload/file/pdf/v2/lcsc/2205312016_UNI-ROYAL-Uniroyal-Elec-181207F6801T4E_C422063.pdf; ComponentLink2Description: JLCPCB Part URL; ComponentLink2URL: https://jlcpcb.com/partdetail/C422063
pins: 1, 2
1 alternate drawing of the same symbol

## 181207F6802T4E
designator R?  Resistance: 68kΩ  (hidden comment: *)
Resistor, 68kΩ, ±1%, 750mW, 200V, ±100ppm/℃, -55℃~+155℃, SMD 1812; Manufacturer: Uniroyal; Manufacturer Part Number: 181207F6802T4E; Supplier 1: LCSC; Supplier Part Number 1: C422062; JLCPCB Part Number: C422062; Power Rating: 750mW; Category: Resistors; Package Size: 1812; JLCPCB Basic Part: Yes; Tolerance: ±1%; Voltage Rating: 200V; Temperature Coefficient: ±100ppm/℃; Temperature Rating: -55℃~+155℃; ComponentLink1Description: Datasheet; ComponentLink1URL: https://wmsc.lcsc.com/wmsc/upload/file/pdf/v2/lcsc/2205312016_UNI-ROYAL-Uniroyal-Elec-181207F6802T4E_C422062.pdf; ComponentLink2Description: JLCPCB Part URL; ComponentLink2URL: https://jlcpcb.com/partdetail/C422062
pins: 1, 2
1 alternate drawing of the same symbol

## 181207F6803T4E
designator R?  Resistance: 680kΩ  (hidden comment: *)
Resistor, 680kΩ, ±1%, 750mW, 200V, ±100ppm/℃, -55℃~+155℃, SMD 1812; Manufacturer: Uniroyal; Manufacturer Part Number: 181207F6803T4E; Supplier 1: LCSC; Supplier Part Number 1: C422061; JLCPCB Part Number: C422061; Power Rating: 750mW; Category: Resistors; Package Size: 1812; JLCPCB Basic Part: Yes; Tolerance: ±1%; Voltage Rating: 200V; Temperature Coefficient: ±100ppm/℃; Temperature Rating: -55℃~+155℃; ComponentLink1Description: Datasheet; ComponentLink1URL: https://wmsc.lcsc.com/wmsc/upload/file/pdf/v2/lcsc/2205312016_UNI-ROYAL-Uniroyal-Elec-181207F6803T4E_C422061.pdf; ComponentLink2Description: JLCPCB Part URL; ComponentLink2URL: https://jlcpcb.com/partdetail/C422061
pins: 1, 2
1 alternate drawing of the same symbol

## 181207F6980T4E
designator R?  Resistance: 698Ω  (hidden comment: *)
Resistor, 698Ω, ±1%, 750mW, 200V, ±100ppm/℃, -55℃~+155℃, SMD 1812; Manufacturer: Uniroyal; Manufacturer Part Number: 181207F6980T4E; Supplier 1: LCSC; Supplier Part Number 1: C422057; JLCPCB Part Number: C422057; Power Rating: 750mW; Category: Resistors; Package Size: 1812; JLCPCB Basic Part: Yes; Tolerance: ±1%; Voltage Rating: 200V; Temperature Coefficient: ±100ppm/℃; Temperature Rating: -55℃~+155℃; ComponentLink1Description: Datasheet; ComponentLink1URL: https://wmsc.lcsc.com/wmsc/upload/file/pdf/v2/lcsc/2205312016_UNI-ROYAL-Uniroyal-Elec-181207F6980T4E_C422057.pdf; ComponentLink2Description: JLCPCB Part URL; ComponentLink2URL: https://jlcpcb.com/partdetail/C422057
pins: 1, 2
1 alternate drawing of the same symbol

## 181207F7500T4E
designator R?  Resistance: 750Ω  (hidden comment: *)
Resistor, 750Ω, ±1%, 750mW, 200V, ±100ppm/℃, -55℃~+155℃, SMD 1812; Manufacturer: Uniroyal; Manufacturer Part Number: 181207F7500T4E; Supplier 1: LCSC; Supplier Part Number 1: C422056; JLCPCB Part Number: C422056; Power Rating: 750mW; Category: Resistors; Package Size: 1812; JLCPCB Basic Part: Yes; Tolerance: ±1%; Voltage Rating: 200V; Temperature Coefficient: ±100ppm/℃; Temperature Rating: -55℃~+155℃; ComponentLink1Description: Datasheet; ComponentLink1URL: https://wmsc.lcsc.com/wmsc/upload/file/pdf/v2/lcsc/2205312016_UNI-ROYAL-Uniroyal-Elec-181207F7500T4E_C422056.pdf; ComponentLink2Description: JLCPCB Part URL; ComponentLink2URL: https://jlcpcb.com/partdetail/C422056
pins: 1, 2
1 alternate drawing of the same symbol

## 181207F7502T4E
designator R?  Resistance: 75kΩ  (hidden comment: *)
Resistor, 75kΩ, ±1%, 750mW, 200V, ±100ppm/℃, -55℃~+155℃, SMD 1812; Manufacturer: Uniroyal; Manufacturer Part Number: 181207F7502T4E; Supplier 1: LCSC; Supplier Part Number 1: C2765508; JLCPCB Part Number: C2765508; Power Rating: 750mW; Category: Resistors; Package Size: 1812; JLCPCB Basic Part: Yes; Tolerance: ±1%; Voltage Rating: 200V; Temperature Coefficient: ±100ppm/℃; Temperature Rating: -55℃~+155℃; ComponentLink1Description: Datasheet; ComponentLink1URL: https://wmsc.lcsc.com/wmsc/upload/file/pdf/v2/lcsc/2206011045_UNI-ROYAL-Uniroyal-Elec-181207F7502T4E_C2765508.pdf; ComponentLink2Description: JLCPCB Part URL; ComponentLink2URL: https://jlcpcb.com/partdetail/C2765508
pins: 1, 2
1 alternate drawing of the same symbol

## 181207F8870T4E
designator R?  Resistance: 887Ω  (hidden comment: *)
Resistor, 887Ω, ±1%, 750mW, 200V, ±100ppm/℃, -55℃~+155℃, SMD 1812; Manufacturer: Uniroyal; Manufacturer Part Number: 181207F8870T4E; Supplier 1: LCSC; Supplier Part Number 1: C422046; JLCPCB Part Number: C422046; Power Rating: 750mW; Category: Resistors; Package Size: 1812; JLCPCB Basic Part: Yes; Tolerance: ±1%; Voltage Rating: 200V; Temperature Coefficient: ±100ppm/℃; Temperature Rating: -55℃~+155℃; ComponentLink1Description: Datasheet; ComponentLink1URL: https://wmsc.lcsc.com/wmsc/upload/file/pdf/v2/lcsc/2205312016_UNI-ROYAL-Uniroyal-Elec-181207F8870T4E_C422046.pdf; ComponentLink2Description: JLCPCB Part URL; ComponentLink2URL: https://jlcpcb.com/partdetail/C422046
pins: 1, 2
1 alternate drawing of the same symbol

## 181207F9101T4E
designator R?  Resistance: 9.1kΩ  (hidden comment: *)
Resistor, 9.1kΩ, ±1%, 750mW, 200V, ±100ppm/℃, -55℃~+155℃, SMD 1812; Manufacturer: Uniroyal; Manufacturer Part Number: 181207F9101T4E; Supplier 1: LCSC; Supplier Part Number 1: C422043; JLCPCB Part Number: C422043; Power Rating: 750mW; Category: Resistors; Package Size: 1812; JLCPCB Basic Part: Yes; Tolerance: ±1%; Voltage Rating: 200V; Temperature Coefficient: ±100ppm/℃; Temperature Rating: -55℃~+155℃; ComponentLink1Description: Datasheet; ComponentLink1URL: https://wmsc.lcsc.com/wmsc/upload/file/pdf/v2/lcsc/2205312016_UNI-ROYAL-Uniroyal-Elec-181207F9101T4E_C422043.pdf; ComponentLink2Description: JLCPCB Part URL; ComponentLink2URL: https://jlcpcb.com/partdetail/C422043
pins: 1, 2
1 alternate drawing of the same symbol

## 181207F9103T4E
designator R?  Resistance: 910kΩ  (hidden comment: *)
Resistor, 910kΩ, ±1%, 750mW, 200V, ±100ppm/℃, -55℃~+155℃, SMD 1812; Manufacturer: Uniroyal; Manufacturer Part Number: 181207F9103T4E; Supplier 1: LCSC; Supplier Part Number 1: C422041; JLCPCB Part Number: C422041; Power Rating: 750mW; Category: Resistors; Package Size: 1812; JLCPCB Basic Part: Yes; Tolerance: ±1%; Voltage Rating: 200V; Temperature Coefficient: ±100ppm/℃; Temperature Rating: -55℃~+155℃; ComponentLink1Description: Datasheet; ComponentLink1URL: https://wmsc.lcsc.com/wmsc/upload/file/pdf/v2/lcsc/2205312016_UNI-ROYAL-Uniroyal-Elec-181207F9103T4E_C422041.pdf; ComponentLink2Description: JLCPCB Part URL; ComponentLink2URL: https://jlcpcb.com/partdetail/C422041
pins: 1, 2
1 alternate drawing of the same symbol

## 181207J0000T4E
designator R?  Resistance: 0Ω  (hidden comment: *)
Resistor, 0Ω, ±5%, 750mW, 200V, ±800ppm/℃, -55℃~+155℃, SMD 1812; Manufacturer: Uniroyal; Manufacturer Part Number: 181207J0000T4E; Supplier 1: LCSC; Supplier Part Number 1: C270976; JLCPCB Part Number: C270976; Power Rating: 750mW; Category: Resistors; Package Size: 1812; JLCPCB Basic Part: Yes; Tolerance: ±5%; Voltage Rating: 200V; Temperature Coefficient: ±800ppm/℃; Temperature Rating: -55℃~+155℃; ComponentLink1Description: Datasheet; ComponentLink1URL: https://wmsc.lcsc.com/wmsc/upload/file/pdf/v2/lcsc/2205311945_UNI-ROYAL-Uniroyal-Elec-181207J0000T4E_C270976.pdf; ComponentLink2Description: JLCPCB Part URL; ComponentLink2URL: https://jlcpcb.com/partdetail/C270976
pins: 1, 2
1 alternate drawing of the same symbol

## 181207J010LT4E
designator R?  Resistance: 10mΩ  (hidden comment: *)
Resistor, 10mΩ, ±5%, 750mW, 200V, ±1500ppm/℃, -55℃~+155℃, SMD 1812; Manufacturer: Uniroyal; Manufacturer Part Number: 181207J010LT4E; Supplier 1: LCSC; Supplier Part Number 1: C921026; JLCPCB Part Number: C921026; Power Rating: 750mW; Category: Resistors; Package Size: 1812; JLCPCB Basic Part: Yes; Tolerance: ±5%; Voltage Rating: 200V; Temperature Coefficient: ±1500ppm/℃; Temperature Rating: -55℃~+155℃; ComponentLink1Description: Datasheet; ComponentLink1URL: https://wmsc.lcsc.com/wmsc/upload/file/pdf/v2/lcsc/2206011045_UNI-ROYAL-Uniroyal-Elec-181207J010LT4E_C921026.pdf; ComponentLink2Description: JLCPCB Part URL; ComponentLink2URL: https://jlcpcb.com/partdetail/C921026
pins: 1, 2
1 alternate drawing of the same symbol

## 181207J012KT4E
designator R?  Resistance: 120mΩ  (hidden comment: *)
Resistor, 120mΩ, ±5%, 750mW, 200V, ±800ppm/℃, -55℃~+155℃, SMD 1812; Manufacturer: Uniroyal; Manufacturer Part Number: 181207J012KT4E; Supplier 1: LCSC; Supplier Part Number 1: C422033; JLCPCB Part Number: C422033; Power Rating: 750mW; Category: Resistors; Package Size: 1812; JLCPCB Basic Part: Yes; Tolerance: ±5%; Voltage Rating: 200V; Temperature Coefficient: ±800ppm/℃; Temperature Rating: -55℃~+155℃; ComponentLink1Description: Datasheet; ComponentLink1URL: https://wmsc.lcsc.com/wmsc/upload/file/pdf/v2/lcsc/2205312016_UNI-ROYAL-Uniroyal-Elec-181207J012KT4E_C422033.pdf; ComponentLink2Description: JLCPCB Part URL; ComponentLink2URL: https://jlcpcb.com/partdetail/C422033
pins: 1, 2
1 alternate drawing of the same symbol

## 181207J015KT4E
designator R?  Resistance: 150mΩ  (hidden comment: *)
Resistor, 150mΩ, ±5%, 750mW, 200V, ±800ppm/℃, -55℃~+155℃, SMD 1812; Manufacturer: Uniroyal; Manufacturer Part Number: 181207J015KT4E; Supplier 1: LCSC; Supplier Part Number 1: C422025; JLCPCB Part Number: C422025; Power Rating: 750mW; Category: Resistors; Package Size: 1812; JLCPCB Basic Part: Yes; Tolerance: ±5%; Voltage Rating: 200V; Temperature Coefficient: ±800ppm/℃; Temperature Rating: -55℃~+155℃; ComponentLink1Description: Datasheet; ComponentLink1URL: https://wmsc.lcsc.com/wmsc/upload/file/pdf/v2/lcsc/2205312016_UNI-ROYAL-Uniroyal-Elec-181207J015KT4E_C422025.pdf; ComponentLink2Description: JLCPCB Part URL; ComponentLink2URL: https://jlcpcb.com/partdetail/C422025
pins: 1, 2
1 alternate drawing of the same symbol

## 181207J018JT4E
designator R?  Resistance: 1.8Ω  (hidden comment: *)
Resistor, 1.8Ω, ±5%, 750mW, 200V, ±200ppm/℃, -55℃~+155℃, SMD 1812; Manufacturer: Uniroyal; Manufacturer Part Number: 181207J018JT4E; Supplier 1: LCSC; Supplier Part Number 1: C2768485; JLCPCB Part Number: C2768485; Power Rating: 750mW; Category: Resistors; Package Size: 1812; JLCPCB Basic Part: Yes; Tolerance: ±5%; Voltage Rating: 200V; Temperature Coefficient: ±200ppm/℃; Temperature Rating: -55℃~+155℃; ComponentLink1Description: Datasheet; ComponentLink1URL: https://wmsc.lcsc.com/wmsc/upload/file/pdf/v2/lcsc/2206011000_UNI-ROYAL-Uniroyal-Elec-181207J018JT4E_C2768485.pdf; ComponentLink2Description: JLCPCB Part URL; ComponentLink2URL: https://jlcpcb.com/partdetail/C2768485
pins: 1, 2
1 alternate drawing of the same symbol

## 181207J018KT4E
designator R?  Resistance: 180mΩ  (hidden comment: *)
Resistor, 180mΩ, ±5%, 750mW, 200V, ±800ppm/℃, -55℃~+155℃, SMD 1812; Manufacturer: Uniroyal; Manufacturer Part Number: 181207J018KT4E; Supplier 1: LCSC; Supplier Part Number 1: C422018; JLCPCB Part Number: C422018; Power Rating: 750mW; Category: Resistors; Package Size: 1812; JLCPCB Basic Part: Yes; Tolerance: ±5%; Voltage Rating: 200V; Temperature Coefficient: ±800ppm/℃; Temperature Rating: -55℃~+155℃; ComponentLink1Description: Datasheet; ComponentLink1URL: https://wmsc.lcsc.com/wmsc/upload/file/pdf/v2/lcsc/2205312016_UNI-ROYAL-Uniroyal-Elec-181207J018KT4E_C422018.pdf; ComponentLink2Description: JLCPCB Part URL; ComponentLink2URL: https://jlcpcb.com/partdetail/C422018
pins: 1, 2
1 alternate drawing of the same symbol

## 181207J020JT4E
designator R?  Resistance: 2Ω  (hidden comment: *)
Resistor, 2Ω, ±5%, 750mW, 200V, ±200ppm/℃, -55℃~+155℃, SMD 1812; Manufacturer: Uniroyal; Manufacturer Part Number: 181207J020JT4E; Supplier 1: LCSC; Supplier Part Number 1: C621090; JLCPCB Part Number: C621090; Power Rating: 750mW; Category: Resistors; Package Size: 1812; JLCPCB Basic Part: Yes; Tolerance: ±5%; Voltage Rating: 200V; Temperature Coefficient: ±200ppm/℃; Temperature Rating: -55℃~+155℃; ComponentLink1Description: Datasheet; ComponentLink1URL: https://wmsc.lcsc.com/wmsc/upload/file/pdf/v2/lcsc/2206011100_UNI-ROYAL-Uniroyal-Elec-181207J020JT4E_C621090.pdf; ComponentLink2Description: JLCPCB Part URL; ComponentLink2URL: https://jlcpcb.com/partdetail/C621090
pins: 1, 2
1 alternate drawing of the same symbol

## 181207J022JT4E
designator R?  Resistance: 2.2Ω  (hidden comment: *)
Resistor, 2.2Ω, ±5%, 750mW, 200V, ±400ppm/℃, -55℃~+155℃, SMD 1812; Manufacturer: Uniroyal; Manufacturer Part Number: 181207J022JT4E; Supplier 1: LCSC; Supplier Part Number 1: C61434; JLCPCB Part Number: C61434; Power Rating: 750mW; Category: Resistors; Package Size: 1812; JLCPCB Basic Part: Yes; Tolerance: ±5%; Voltage Rating: 200V; Temperature Coefficient: ±400ppm/℃; Temperature Rating: -55℃~+155℃; ComponentLink1Description: Datasheet; ComponentLink1URL: https://wmsc.lcsc.com/wmsc/upload/file/pdf/v2/lcsc/2205312345_UNI-ROYAL-Uniroyal-Elec-181207J022JT4E_C61434.pdf; ComponentLink2Description: JLCPCB Part URL; ComponentLink2URL: https://jlcpcb.com/partdetail/C61434
pins: 1, 2
1 alternate drawing of the same symbol

## 181207J022KT4E
designator R?  Resistance: 220mΩ  (hidden comment: *)
Resistor, 220mΩ, ±5%, 750mW, 200V, ±800ppm/℃, -55℃~+155℃, SMD 1812; Manufacturer: Uniroyal; Manufacturer Part Number: 181207J022KT4E; Supplier 1: LCSC; Supplier Part Number 1: C621073; JLCPCB Part Number: C621073; Power Rating: 750mW; Category: Resistors; Package Size: 1812; JLCPCB Basic Part: Yes; Tolerance: ±5%; Voltage Rating: 200V; Temperature Coefficient: ±800ppm/℃; Temperature Rating: -55℃~+155℃; ComponentLink1Description: Datasheet; ComponentLink1URL: https://wmsc.lcsc.com/wmsc/upload/file/pdf/v2/lcsc/2205311830_UNI-ROYAL-Uniroyal-Elec-181207J022KT4E_C621073.pdf; ComponentLink2Description: JLCPCB Part URL; ComponentLink2URL: https://jlcpcb.com/partdetail/C621073
pins: 1, 2
1 alternate drawing of the same symbol

## 181207J024JT4E
designator R?  Resistance: 2.4Ω  (hidden comment: *)
Resistor, 2.4Ω, ±5%, 750mW, 200V, ±200ppm/℃, -55℃~+155℃, SMD 1812; Manufacturer: Uniroyal; Manufacturer Part Number: 181207J024JT4E; Supplier 1: LCSC; Supplier Part Number 1: C422010; JLCPCB Part Number: C422010; Power Rating: 750mW; Category: Resistors; Package Size: 1812; JLCPCB Basic Part: Yes; Tolerance: ±5%; Voltage Rating: 200V; Temperature Coefficient: ±200ppm/℃; Temperature Rating: -55℃~+155℃; ComponentLink1Description: Datasheet; ComponentLink1URL: https://wmsc.lcsc.com/wmsc/upload/file/pdf/v2/lcsc/2205312016_UNI-ROYAL-Uniroyal-Elec-181207J024JT4E_C422010.pdf; ComponentLink2Description: JLCPCB Part URL; ComponentLink2URL: https://jlcpcb.com/partdetail/C422010
pins: 1, 2
1 alternate drawing of the same symbol

## 181207J030KT4E
designator R?  Resistance: 300mΩ  (hidden comment: *)
Resistor, 300mΩ, ±5%, 750mW, 200V, -55℃~+155℃, SMD 1812; Manufacturer: Uniroyal; Manufacturer Part Number: 181207J030KT4E; Supplier 1: LCSC; Supplier Part Number 1: C422004; JLCPCB Part Number: C422004; Power Rating: 750mW; Category: Resistors; Package Size: 1812; JLCPCB Basic Part: Yes; Tolerance: ±5%; Voltage Rating: 200V; Temperature Rating: -55℃~+155℃; ComponentLink1Description: Datasheet; ComponentLink1URL: https://wmsc.lcsc.com/wmsc/upload/file/pdf/v2/lcsc/2211141030_UNI-ROYAL-Uniroyal-Elec-181207J030KT4E_C422004.pdf; ComponentLink2Description: JLCPCB Part URL; ComponentLink2URL: https://jlcpcb.com/partdetail/C422004
pins: 1, 2
1 alternate drawing of the same symbol

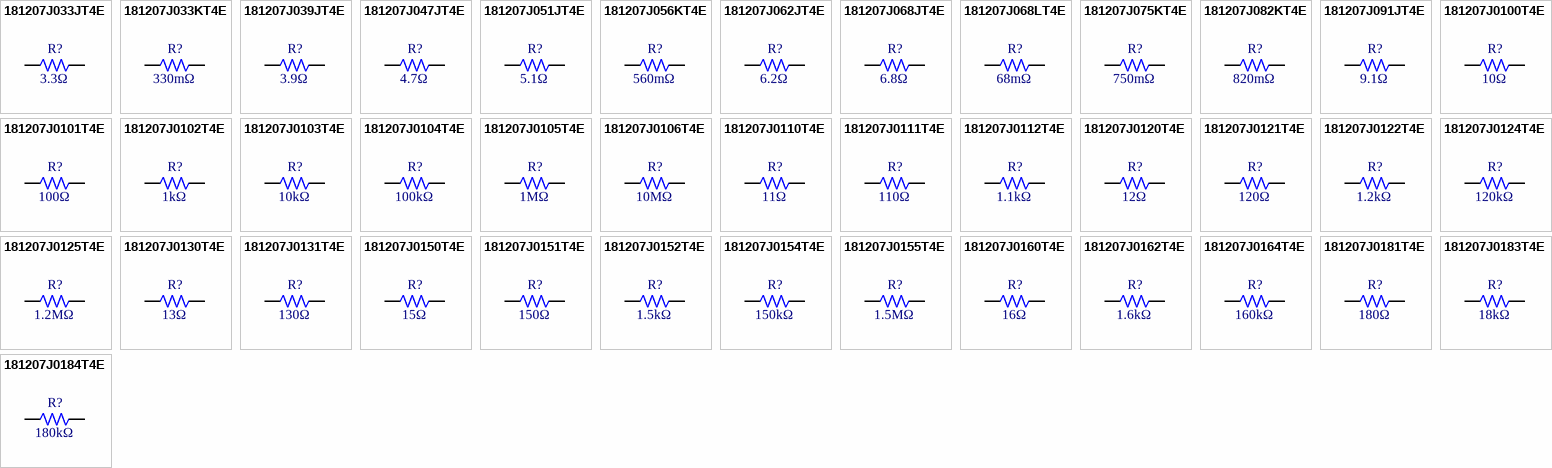
[diagram p3: symbols 181207J033JT4E to 181207J0184T4E]

## 181207J033JT4E
designator R?  Resistance: 3.3Ω  (hidden comment: *)
Resistor, 3.3Ω, ±5%, 750mW, 200V, ±200ppm/℃, -55℃~+155℃, SMD 1812; Manufacturer: Uniroyal; Manufacturer Part Number: 181207J033JT4E; Supplier 1: LCSC; Supplier Part Number 1: C473628; JLCPCB Part Number: C473628; Power Rating: 750mW; Category: Resistors; Package Size: 1812; JLCPCB Basic Part: Yes; Tolerance: ±5%; Voltage Rating: 200V; Temperature Coefficient: ±200ppm/℃; Temperature Rating: -55℃~+155℃; ComponentLink1Description: Datasheet; ComponentLink1URL: https://wmsc.lcsc.com/wmsc/upload/file/pdf/v2/lcsc/2206011100_UNI-ROYAL-Uniroyal-Elec-181207J033JT4E_C473628.pdf; ComponentLink2Description: JLCPCB Part URL; ComponentLink2URL: https://jlcpcb.com/partdetail/C473628
pins: 1, 2
1 alternate drawing of the same symbol

## 181207J033KT4E
designator R?  Resistance: 330mΩ  (hidden comment: *)
Resistor, 330mΩ, ±5%, 750mW, 200V, -55℃~+155℃, SMD 1812; Manufacturer: Uniroyal; Manufacturer Part Number: 181207J033KT4E; Supplier 1: LCSC; Supplier Part Number 1: C422000; JLCPCB Part Number: C422000; Power Rating: 750mW; Category: Resistors; Package Size: 1812; JLCPCB Basic Part: Yes; Tolerance: ±5%; Voltage Rating: 200V; Temperature Rating: -55℃~+155℃; ComponentLink1Description: Datasheet; ComponentLink1URL: https://wmsc.lcsc.com/wmsc/upload/file/pdf/v2/lcsc/2211141030_UNI-ROYAL-Uniroyal-Elec-181207J033KT4E_C422000.pdf; ComponentLink2Description: JLCPCB Part URL; ComponentLink2URL: https://jlcpcb.com/partdetail/C422000
pins: 1, 2
1 alternate drawing of the same symbol

## 181207J039JT4E
designator R?  Resistance: 3.9Ω  (hidden comment: *)
Resistor, 3.9Ω, ±5%, 750mW, 200V, ±400ppm/℃, -55℃~+155℃, SMD 1812; Manufacturer: Uniroyal; Manufacturer Part Number: 181207J039JT4E; Supplier 1: LCSC; Supplier Part Number 1: C421992; JLCPCB Part Number: C421992; Power Rating: 750mW; Category: Resistors; Package Size: 1812; JLCPCB Basic Part: Yes; Tolerance: ±5%; Voltage Rating: 200V; Temperature Coefficient: ±400ppm/℃; Temperature Rating: -55℃~+155℃; ComponentLink1Description: Datasheet; ComponentLink1URL: https://wmsc.lcsc.com/wmsc/upload/file/pdf/v2/lcsc/2304140030_UNI-ROYAL-Uniroyal-Elec-181207J039JT4E_C421992.pdf; ComponentLink2Description: JLCPCB Part URL; ComponentLink2URL: https://jlcpcb.com/partdetail/C421992
pins: 1, 2
1 alternate drawing of the same symbol

## 181207J047JT4E
designator R?  Resistance: 4.7Ω  (hidden comment: *)
Resistor, 4.7Ω, ±5%, 750mW, 200V, ±200ppm/℃, -55℃~+155℃, SMD 1812; Manufacturer: Uniroyal; Manufacturer Part Number: 181207J047JT4E; Supplier 1: LCSC; Supplier Part Number 1: C473627; JLCPCB Part Number: C473627; Power Rating: 750mW; Category: Resistors; Package Size: 1812; JLCPCB Basic Part: Yes; Tolerance: ±5%; Voltage Rating: 200V; Temperature Coefficient: ±200ppm/℃; Temperature Rating: -55℃~+155℃; ComponentLink1Description: Datasheet; ComponentLink1URL: https://wmsc.lcsc.com/wmsc/upload/file/pdf/v2/lcsc/2206011100_UNI-ROYAL-Uniroyal-Elec-181207J047JT4E_C473627.pdf; ComponentLink2Description: JLCPCB Part URL; ComponentLink2URL: https://jlcpcb.com/partdetail/C473627
pins: 1, 2
1 alternate drawing of the same symbol

## 181207J051JT4E
designator R?  Resistance: 5.1Ω  (hidden comment: *)
Resistor, 5.1Ω, ±5%, 750mW, 200V, ±200ppm/℃, -55℃~+155℃, SMD 1812; Manufacturer: Uniroyal; Manufacturer Part Number: 181207J051JT4E; Supplier 1: LCSC; Supplier Part Number 1: C621104; JLCPCB Part Number: C621104; Power Rating: 750mW; Category: Resistors; Package Size: 1812; JLCPCB Basic Part: Yes; Tolerance: ±5%; Voltage Rating: 200V; Temperature Coefficient: ±200ppm/℃; Temperature Rating: -55℃~+155℃; ComponentLink1Description: Datasheet; ComponentLink1URL: https://wmsc.lcsc.com/wmsc/upload/file/pdf/v2/lcsc/2206011100_UNI-ROYAL-Uniroyal-Elec-181207J051JT4E_C621104.pdf; ComponentLink2Description: JLCPCB Part URL; ComponentLink2URL: https://jlcpcb.com/partdetail/C621104
pins: 1, 2
1 alternate drawing of the same symbol